# Altium schematic symbol library New_Parts.SchLib: 17 symbols
Pins are listed as number, name and electrical type; pins without a type are passive.

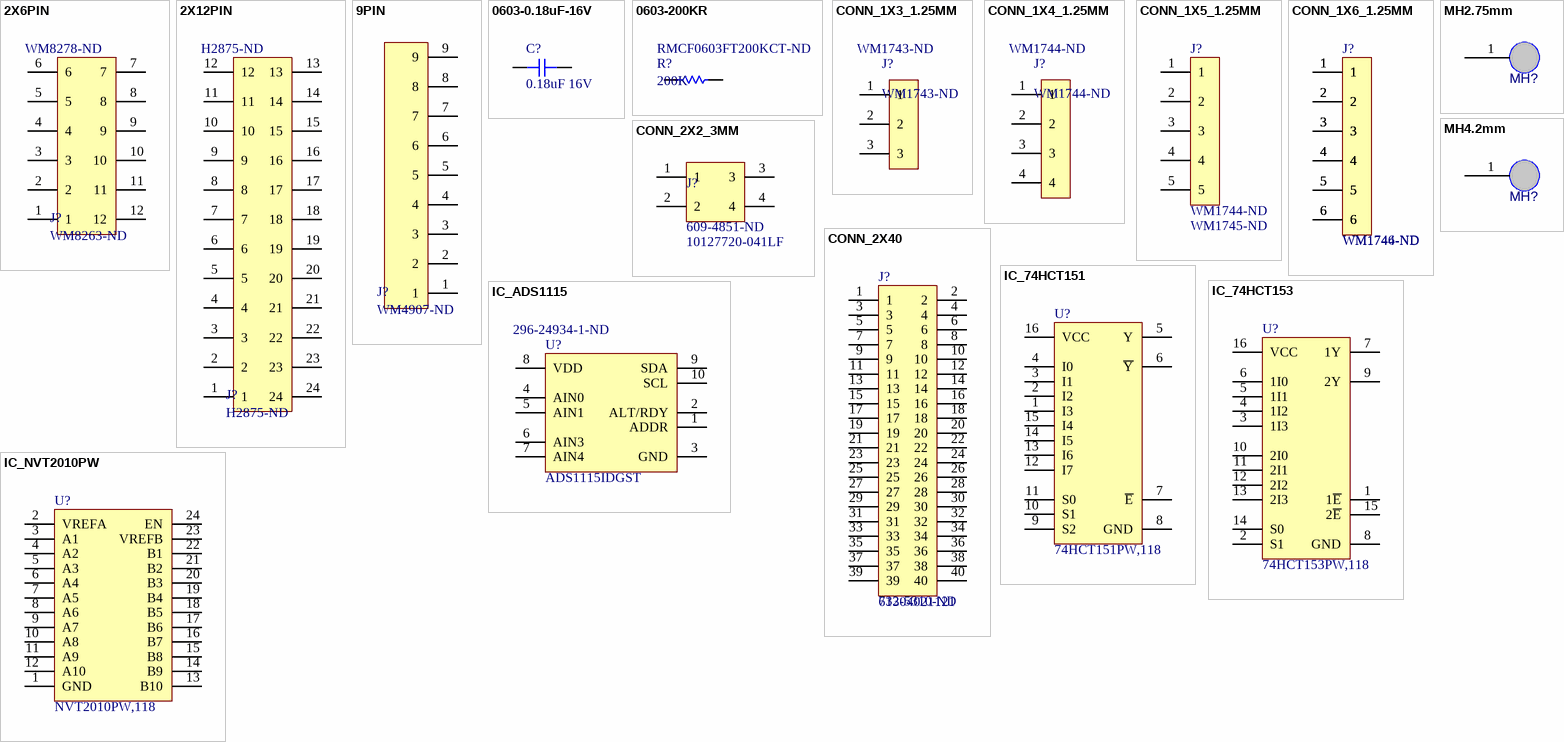
[diagram p0: symbols 2X6PIN to MH4.2mm]

## 2X6PIN
designator J?, comment WM8263-ND  Supplier Part Number 1: WM8278-ND
Connector Shrouded Header 12 Position 2.54mm Solder Straight; Manufacturer: Molex; Manufacturer Part Number: 90130-3212; Number of Positions: 12; Max Voltage Rating (DC): 350.35kV; Max Voltage Rating (AC): 300V; Current Rating: 3A; Gender: Male; Contact Resistance: 20mR; Voltage Rating (AC): 350V; Insulation Resistance: 5GR; Glow Wire Compliant: Non-compliant; Supplier 1: Digi-Key; RoHS: Yes; Category: Headers and Wire Housings; Stock 1: 5702; Pricing 1: 1=3.26000, 10=2.86800, 440=2.28173, 1440=1.89057, 5760=1.69499 (USD); Mount: Through Hole,Cable; Color: Black; Housing Color: Black; Housing Material: Polyester; Contact Plating: Gold; Contact Material: Brass,Copper Alloy,Bronze; Material: Glass,Polyester; Min Operating Temperature: -55°C; Max Operating Temperature: 125°C; Number of Rows: 2; Packaging: Tray; Termination: Solder; Number of Contacts: 12; Orientation: Right Angle; Series: C-Grid III; Package Quantity: 1440; Number of Poles: 12; Voltage Rating: 350V; Max Current Rating: 3A; Working Voltage: 350V; Voltage Rating (DC): 350V; Number of Circuits: 12; Length: 20.62mm; Pitch: 2.54mm; Depth: 1.9mm; Lead Pitch: 2.54mm; Radiation Hardening: No; REACH SVHC: Unknown; Lead Free: Lead Free; RoHS Compliant: Yes; ComponentLink1URL: https://datasheet.ciiva.com/10081/0901303212-pcb-headers-10081986.pdf?src-supplier=Avnet; ComponentLink1Description: https://datasheet.ciiva.com/10081/0901303212-pcb-headers-10081986.pdf?src-supplier=Avnet; ComponentLink2URL: https://datasheet.ciiva.com/5153/0901303212-pcb-headers-151621-5153933.pdf?src-supplier=Mouser; ComponentLink2Description: https://datasheet.ciiva.com/5153/0901303212-pcb-headers-151621-5153933.pdf?src-supplier=Mouser; ComponentLink3URL: https://datasheet.ciiva.com/19462/1303661-19462077.pdf?src-supplier=Jameco; ComponentLink3Description: https://datasheet.ciiva.com/19462/1303661-19462077.pdf?src-supplier=Jameco; ComponentLink4URL: https://datasheet.ciiva.com/30092/114710901303212-pcb-headers-30092601.pdf?src-supplier=Onlinecomponents.com; ComponentLink4Description: https://datasheet.ciiva.com/30092/114710901303212-pcb-headers-30092601.pdf?src-supplier=Onlinecomponents.com; ComponentLink5URL: https://datasheet.ciiva.com/11746/0900766b8002f277-11746588.pdf?src-supplier=RSComponents; ComponentLink5Description: https://datasheet.ciiva.com/11746/0900766b8002f277-11746588.pdf?src-supplier=RSComponents; ComponentLink6URL: https://datasheet.ciiva.com/7814/1785791-7814939.pdf?src-supplier=Element14; ComponentLink6Description: https://datasheet.ciiva.com/7814/1785791-7814939.pdf?src-supplier=Element14
footprint 2X6PIN
pins: 1, 2, 3, 4, 5, 6, 7, 8, 9, 10, 11, 12

## 2X12PIN
designator J?, comment H2875-ND
CONN HEADER R/A 24POS 2MM; ComponentLink1URL: http://docs-usa.electrocomponents.com/techlib:/itc_doclist_US.htm?stockno=6888963&src-supplier=Allied+Electronics; ComponentLink1Description: http://docs-usa.electrocomponents.com/techlib:/itc_doclist_US.htm?stockno=6888963&src-supplier=Allied+Electronics; ComponentLink2URL: https://www.verical.com/server-webapp/html/getDatasheet?partID=456315&src-supplier=Verical; ComponentLink2Description: https://www.verical.com/server-webapp/html/getDatasheet?partID=456315&src-supplier=Verical; ComponentLink3URL: http://www.hirose.co.jp/cataloge_hp/en_DF11_20130411.pdf?src-supplier=Future+Electronics; ComponentLink3Description: http://www.hirose.co.jp/cataloge_hp/en_DF11_20130411.pdf?src-supplier=Future+Electronics; ComponentLink4URL: http://www.farnell.com/datasheets/91550.pdf?src-supplier=Element14; ComponentLink4Description: http://www.farnell.com/datasheets/91550.pdf?src-supplier=Element14; ComponentLink5URL: http://www.mouser.com/ds/2/185/DF11_catalog-1064296.pdf?src-supplier=Mouser; ComponentLink5Description: http://www.mouser.com/ds/2/185/DF11_catalog-1064296.pdf?src-supplier=Mouser; ComponentLink6URL: http://documents.rs-components.com/techlib://itc_doclist_GB.htm?stockno=6056598&src-supplier=RSComponents; ComponentLink6Description: http://documents.rs-components.com/techlib://itc_doclist_GB.htm?stockno=6056598&src-supplier=RSComponents; Supplier 1: Digi-Key; Supplier Part Number 1: H2875-ND
footprint 2X12PIN
pins: 1, 2, 3, 4, 5, 6, 7, 8, 9, 10, 11, 12, 13, 14, 15, 16, 17, 18, 19, 20, 21, 22, 23, 24

## 9PIN
designator J?, comment WM4907-ND
CONN HEADER R/A 9POS 2.54MM; Manufacturer: Molex; Manufacturer Part Number: 70553-0112; Contact Resistance: 30mR; Current Rating: 3A; Voltage Rating: 250V; Number of Positions: 8; Insulation Resistance: 1GR; Connector Type: Male Pin; Glow Wire Compliant: Non-compliant; Supplier 1: Digi-Key; Stock 1: 1363; Pricing 1: 1=2.43, 10=2.205, 100=1.89, 500=1.575, 1000=1.35, 5000=1.197, 10000=1.17 (USD); Mount: Through Hole; Color: Black; Contact Material: Bronze; Contact Plating: Gold; Material: Brass; Housing Material: Thermoplastic; Min Operating Temperature: -40°C; Max Operating Temperature: 105°C; Package Quantity: 1; Number of Rows: 1; Packaging: Rail/Tube; Termination: Solder; Number of Contacts: 8; Orientation: Right Angle; Voltage Rating (DC): 250V; Number of Circuits: 8; Pitch: 2.54mm; Contact Mating Length: 0.24inch; ELV: Compliant; Flammability Rating: UL94 V-0; ComponentLink1URL: https://www.molex.com/pdm_docs/ps/PS-70400.pdf?src-supplier=Digi-Key; ComponentLink1Description: https://www.molex.com/pdm_docs/ps/PS-70400.pdf?src-supplier=Digi-Key; ComponentLink2URL: http://www.mouser.com/ds/2/276/0705530112_PCB_HEADERS-172840.pdf?src-supplier=Mouser; ComponentLink2Description: http://www.mouser.com/ds/2/276/0705530112_PCB_HEADERS-172840.pdf?src-supplier=Mouser; Supplier Part Number 1: 23-0705530112-ND
footprint 9PIN
pins: 1, 2, 3, 4, 5, 6, 7, 8, 9

## 0603-0.18uF-16V
designator C?, comment 0.18uF 16V
Cap Ceramic 0.18uF 16V X7R 10% SMD 0603 125C Paper T/R; Manufacturer Part Number: CC0603KRX7R7BB184; Manufacturer: Yageo; Capacitance: 180nF; Supplier 1: Digi-Key; RoHS: Yes; Category: Ceramic Capacitors; Stock 1: 8000; Pricing 1: 1=0.20000, 10=0.14500, 50=0.08220, 100=0.06820, 500=0.04780, 1000=0.03958 (USD); Mount: Surface Mount; Case/Package: 0603; Case Code (Imperial): 0603; Case Code (Metric): 1608; Weight: 7.1E-05oz; Min Operating Temperature: -55°C; Max Operating Temperature: 125°C; Tolerance: 10%; Dielectric: X7R; Voltage Rating (DC): 16V; Packaging: Tape and Reel; Voltage Rating: 16V; Termination: SMD/SMT; Resistor Type: Ceramic; Voltage: 16V; Series: CC; Construction: Flat; Length: 1.6mm; Width: 0.031inch; Depth: 0.8mm; Thickness: 0.035inch; Radiation Hardening: No; Lead Free: Lead Free; Halogen Free: Halogen Free; RoHS Compliant: Yes; ComponentLink1URL: https://datasheet.ciiva.com/11465/upy-gphc-x7r-6-3v-to-50v-8-11465175.pdf?src-supplier=Avnet; ComponentLink1Description: https://datasheet.ciiva.com/11465/upy-gphc-x7r-6-3v-to-50v-8-11465175.pdf?src-supplier=Avnet; ComponentLink2URL: https://datasheet.ciiva.com/17434/upy-gphc-x7r-6-3v-to-50v-8-17434591.pdf?src-supplier=Avnet+Europe; ComponentLink2Description: https://datasheet.ciiva.com/17434/upy-gphc-x7r-6-3v-to-50v-8-17434591.pdf?src-supplier=Avnet+Europe; Supplier Part Number 1: 311-4066-1-ND
footprint CAP-0603 (Chip Capacitor, 2-Leads, Body 1.60x0.80mm, IPC Medium Density)
pins: 1, 2

## 0603-200KR
designator R?, comment 200K  Supplier Part Number 1: RMCF0603FT200KCT-ND
RES SMD 200K OHM 1% 1/10W 0603; Supplier 1: Digi-Key
footprint RES-0603 (Chip Resistor, 2-Leads, Body 1.60x0.80mm, IPC Medium Density)
pins: 1, 2

## CONN_1X3_1.25MM
designator J?, comment WM1743-ND
CONN HEADER R/A 3POS 1.25MM; Supplier 1: Digi-Key; Supplier Part Number 1: WM1743-ND
footprint 1X3_1.25MM
pins: 1, 2, 3

## CONN_1X4_1.25MM
designator J?, comment WM1744-ND
CONN HEADER R/A 4POS 1.25MM; Supplier 1: Digi-Key; Supplier Part Number 1: WM1744-ND
footprint 1X4_1.25MM
pins: 1, 2, 3, 4

## CONN_1X5_1.25MM
designator J?, comment WM1744-ND  Supplier Part Number 1: WM1745-ND
CONN HEADER R/A 5POS 1.25MM; Supplier 1: Digi-Key
footprint 1X5_1.25MM
pins: 1, 2, 3, 4, 5

## CONN_1X6_1.25MM
designator J?, comment WM1744-ND  Supplier Part Number 1: WM1746-ND
CONN HEADER R/A 6POS 1.25MM; Supplier 1: Digi-Key
footprint 1X6_1.25MM
pins: 1, 1, 1, 1, 2, 2, 2, 2, 3, 3, 3, 3, 4, 4, 4, 4, 5, 5, 5, 5, 6, 6, 6, 6

## CONN_2X2_3MM
designator J?, comment 10127720-041LF  Supplier Part Number 1: 609-4851-ND
CONN HEADER R/A 4POS 3MM; Supplier 1: Digi-Key
footprint 2x2_3MM (Connector Header Through Hole, Right Angle 4 position 0.118" (3.00mm))
pins: 1, 2, 3, 4

## CONN_2X40
designator J?, comment 61304021121  Supplier Part Number 1: 732-5310-ND
CONN HEADER VERT 40POS 2.54MM; Supplier 1: Digi-Key
footprint 2x40_Header
pins: 1, 2, 3, 4, 5, 6, 7, 8, 9, 10, 11, 12, 13, 14, 15, 16, 17, 18, 19, 20, 21, 22, 23, 24, 25, 26, 27, 28, 29, 30, 31, 32, 33, 34, 35, 36, 37, 38, 39, 40

## IC_74HCT151
designator U?, comment 74HCT151PW,118
Multiplexer 1-Element CMOS 8-IN 16-Pin TSSOP T/R; Manufacturer: NXP Semiconductors; Min Supply Voltage: 4.5V; Max Supply Voltage: 5.5V; Logic Function: Multiplexer,Mux; Propagation Delay: 38ns; High Level Output Current: -4mA; Low Level Output Current: 4mA; Number of Input Lines: 8; Number of Output Lines: 1; Supply Type: Single; Operating Supply Voltage: 5V; Power Dissipation: 500mW; Supplier 1: Digi-Key; Manufacturer Part Number: 74HCT151PW,118; RoHS: Yes; Category: Decoders and Multiplexers; Stock 1: 3419; Pricing 1: 1=0.38000, 10=0.32700, 25=0.30560, 100=0.24440, 250=0.22692, 500=0.19200, 1000=0.14837 (USD); Mount: Surface Mount; Case/Package: TSSOP; Number of Pins: 16; Min Operating Temperature: -40°C; Max Operating Temperature: 125°C; Packaging: Tape and Reel; Package Quantity: 2500; Independent Circuits: 1; Number of Outputs: 1; Number of Inputs: 8; Radiation Hardening: No; RoHS Compliant: Yes; ComponentLink1URL: https://datasheet.ciiva.com/16671/74hc-hct151-16671326.pdf?src-supplier=Avnet+Europe; ComponentLink1Description: https://datasheet.ciiva.com/16671/74hc-hct151-16671326.pdf?src-supplier=Avnet+Europe; Supplier Part Number 1: 1727-7967-1-ND
footprint TSSOP65P660X110-16 (TSSOP, 16-Leads, Body 5.1x4.50mm, Pitch 0.65mm, IPC Medium Density)
pins: 1 I3, 2 I2, 3 I1, 4 I0, 5 Y, 6 ~{Y}, 7 ~{E}, 8 GND, 9 S2, 10 S1, 11 S0, 12 I7, 13 I6, 14 I5, 15 I4, 16 VCC

## IC_74HCT153
designator U?, comment 74HCT153PW,118
IC MULTIPLEXER 4-INPUT 16TSSOP; Manufacturer: NXP Semiconductors; Min Supply Voltage: 4.5V; Max Supply Voltage: 5.5V; Propagation Delay: 14ns; Number of Input Lines: 8; Logic Function: Multiplexer,Mux; Number of Output Lines: 2; High Level Output Current: 4mA; Supply Type: Single; Independent Circuits: 1; Operating Supply Voltage: 5V; Supplier 1: Digi-Key; Manufacturer Part Number: 74HCT153PW,118; RoHS: Yes; Category: Decoders and Multiplexers; Stock 1: 1563; Pricing 1: 1=0.61000, 10=0.53900, 25=0.50640, 100=0.41340, 250=0.38400, 500=0.32680, 1000=0.24020 (USD); Mount: Surface Mount; Case/Package: TSSOP; Number of Pins: 16; Contact Plating: Gold; Min Operating Temperature: -40°C; Max Operating Temperature: 125°C; Packaging: Tape and Reel; Package Quantity: 2500; Low Level Output Current: 4mA; Number of Outputs: 2; Number of Inputs: 8; Series: 74HCT; Radiation Hardening: No; RoHS Compliant: Yes; Lead Free: Lead Free; ComponentLink1URL: https://datasheet.ciiva.com/8242/74hc-hct153-cnv-8242250.pdf?src-supplier=Avnet; ComponentLink1Description: https://datasheet.ciiva.com/8242/74hc-hct153-cnv-8242250.pdf?src-supplier=Avnet; ComponentLink2URL: https://datasheet.ciiva.com/1888/74hc-hct153-cnv-1888511.pdf?src-supplier=Digi-Key; ComponentLink2Description: https://datasheet.ciiva.com/1888/74hc-hct153-cnv-1888511.pdf?src-supplier=Digi-Key; Supplier Part Number 1: 1727-7968-1-ND
footprint TSSOP65P660X110-16 (TSSOP, 16-Leads, Body 5.1x4.50mm, Pitch 0.65mm, IPC Medium Density)
pins: 1 1~{E}, 2 S1, 3 1I3, 4 1I2, 5 1I1, 6 1I0, 7 1Y, 8 GND, 9 2Y, 10 2I0, 11 2I1, 12 2I2, 13 2I3, 14 S0, 15 2~{E}, 16 VCC

## IC_ADS1115
designator U?, comment ADS1115IDGST  Supplier Part Number 1: 296-24934-1-ND
TEXAS INSTRUMENTS - ADS1115IDGST . - Analogue to Digital Converter, 16 bit, 860 SPS, Differential, Single Ended, I2C, Single, 2 V; Sampling Rate: 860S/s; Number of A/D Converters: 1; Number of Bits: 16; Resolution: 16b; Polarity: Bipolar; Number of Inputs: 4; Min Supply Voltage: 2V; Max Supply Voltage: 5.5V; Conversion Rate: 0.86KS/s; Integral Nonlinearity (INL): 1LSB; Power Dissipation: 900uW; Manufacturer: Texas Instruments; RoHS: Yes; Category: Analog to Digital Converters (ADCs); Stock 1: 7435; Pricing 1: 1=5.62000, 10=5.04600, 25=4.77000, 100=3.92200, 250=3.51920, 500=3.39200, 1000=2.81960 (USD); Case/Package: VSSOP; Number of Pins: 10; Contact Plating: Gold; Min Operating Temperature: -40°C; Max Operating Temperature: 125°C; Interface: I2C; Package Quantity: 2500; Packaging: Tape and Reel; Supply Type: Single; Number of Converters: 1; Max Supply Voltage (DC): 5.5V; Min Supply Voltage (DC): 2V; Series: -; Radiation Hardening: No; RoHS Compliant: Yes; Lead Free: Lead Free; REACH SVHC: No SVHC; ComponentLink1URL: https://datasheet.ciiva.com/4031/47725463s8438921n7713-4031028.pdf?src-supplier=Arrow+Electronics; ComponentLink1Description: https://datasheet.ciiva.com/4031/47725463s8438921n7713-4031028.pdf?src-supplier=Arrow+Electronics; ComponentLink2URL: https://datasheet.ciiva.com/1304/ads1113-1304266.pdf?src-supplier=Digi-Key; ComponentLink2Description: https://datasheet.ciiva.com/1304/ads1113-1304266.pdf?src-supplier=Digi-Key; ComponentLink3URL: https://datasheet.ciiva.com/25993/sbas444b-25993205.pdf?src-supplier=Avnet+Europe; ComponentLink3Description: https://datasheet.ciiva.com/25993/sbas444b-25993205.pdf?src-supplier=Avnet+Europe; Manufacturer Part Number: ADS1115IDGST; Supplier 1: Digi-Key
footprint VSSOP50P310X310-10P (VSSOP, 10-Leads, Body 3.1x3.1mm (max), Pitch 0.50mm, IPC Low Density)
pins: 1 ADDR, 2 ALT/RDY, 3 GND, 4 AIN0, 5 AIN1, 6 AIN3, 7 AIN4, 8 VDD, 9 SDA, 10 SCL

## IC_NVT2010PW
designator U?, comment NVT2010PW,118
NVT2010PW/TSSOP24/REEL13//; Manufacturer: NXP Semiconductors; Max Supply Voltage: 5.5V; Min Supply Voltage: 1V; Number of Channels: 10; Propagation Delay: 1.5ns; Logic Function: Translator; Output Type: Voltage; Supplier 1: Digi-Key; Manufacturer Part Number: NVT2010PW,118; RoHS: Yes; Category: Interface ICs; Stock 1: 3117; Pricing 1: 1=1.02000, 10=0.91600, 25=0.86920, 100=0.83480 (USD); Mount: Surface Mount; Case/Package: TSSOP; Number of Pins: 24; Min Operating Temperature: -40°C; Max Operating Temperature: 85°C; Packaging: Tape and Reel; Package Quantity: 1; Number of Bits: 10; Turn-On Delay Time: 1.5ns; Series: -; Radiation Hardening: No; Lead Free: Lead Free; RoHS Compliant: Yes; ComponentLink1URL: https://datasheet.ciiva.com/1899/nvt2008-nvt2010-1899186.pdf?src-supplier=Digi-Key; ComponentLink1Description: https://datasheet.ciiva.com/1899/nvt2008-nvt2010-1899186.pdf?src-supplier=Digi-Key; ComponentLink2URL: https://datasheet.ciiva.com/1899/nvt2008-nvt2010-1899187.pdf?src-supplier=Digi-Key; ComponentLink2Description: https://datasheet.ciiva.com/1899/nvt2008-nvt2010-1899187.pdf?src-supplier=Digi-Key; ComponentLink3URL: https://datasheet.ciiva.com/8244/nvt2008-nvt2010-8244294.pdf?src-supplier=Avnet; ComponentLink3Description: https://datasheet.ciiva.com/8244/nvt2008-nvt2010-8244294.pdf?src-supplier=Avnet; ComponentLink4URL: https://datasheet.ciiva.com/1899/nvt2008-nvt2010-1899185.pdf?src-supplier=Digi-Key; ComponentLink4Description: https://datasheet.ciiva.com/1899/nvt2008-nvt2010-1899185.pdf?src-supplier=Digi-Key; Supplier Part Number 1: 568-5299-1-ND
footprint TSSOP65P660X110-24 (TSSOP, 24-Leads, Body 7.9x4.50mm, Pitch 0.65mm, IPC Medium Density)
pins: 1 GND, 2 VREFA, 3 A1, 4 A2, 5 A3, 6 A4, 7 A5, 8 A6, 9 A7, 10 A8, 11 A9, 12 A10, 13 B10, 14 B9, 15 B8, 16 B7, 17 B6, 18 B5, 19 B4, 20 B3, 21 B2, 22 B1, 23 VREFB, 24 EN

## MH2.75mm
designator MH?, comment MountingHole  (value not drawn)
Mounting hole, 2.7mm; Case: TH
footprint MH2.7MM (Mounting Hole, 2.7mm)
pins: 1

## MH4.2mm
designator MH?, comment MountingHole  (value not drawn)
Mounting hole, 4.2mm; Case: TH
footprint MH4.2MM (Mounting Hole, 4.2mm)
pins: 1